# EAGLE library part SN74HC148NG4 (library SN74HC148NG4)
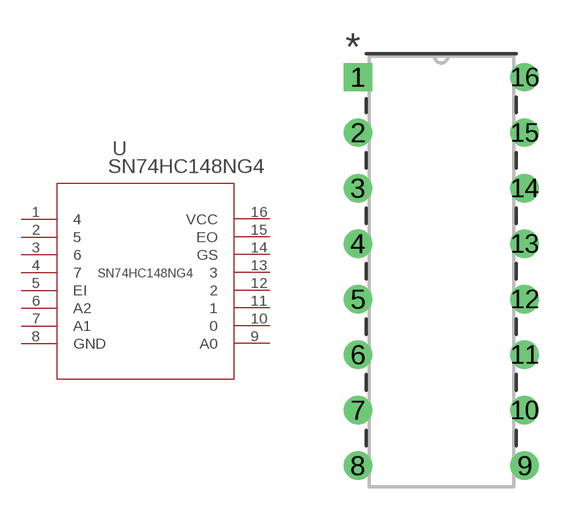
[diagram p0: symbol with the pads of 16-DIP; footprint 16-DIP]

Designator prefix U

## SN74HC148NG4 (COPYRIGHT: Copyright (C) 2023 Ultra Librarian. All rights reserved.; DIGI-KEY_PART_NUMBER_1: SN74HC148NG4-ND; DIGI-KEY_PART_NUMBER_2: 296-8233-5-ND; MANUFACTURER_PART_NUMBER: SN74HC148NG4; MFR_NAME: Texas Instruments)  [16-DIP]
1  4  in
2  5  in
3  6  in
4  7  in
5  EI  in
6  A2  out
7  A1  out
8  GND  pwr
9  A0  out
10  0  in
11  1  in
12  2  in
13  3  in
14  GS  out
15  EO  out
16  VCC  pwr

## Footprint 16-DIP (pad centres in mm)
drill 0.787 pad 1.295 square: 1 0,0
drill 0.787 pad 1.295: 2 0,-2.54; 3 0,-5.08; 4 0,-7.62; 5 0,-10.16; 6 0,-12.7; 7 0,-15.24; 8 0,-17.78; 9 7.62,-17.78; 10 7.62,-15.24; 11 7.62,-12.7; 12 7.62,-10.16; 13 7.62,-7.62; 14 7.62,-5.08; 15 7.62,-2.54; 16 7.62,0